# EAGLE library part RT314F03 (library RT314F03)
Electromechanical Relay 3VDC 15Ohm 16A SPDT (( 29mm 12.7mm 15.7mm)) THT Power Relay
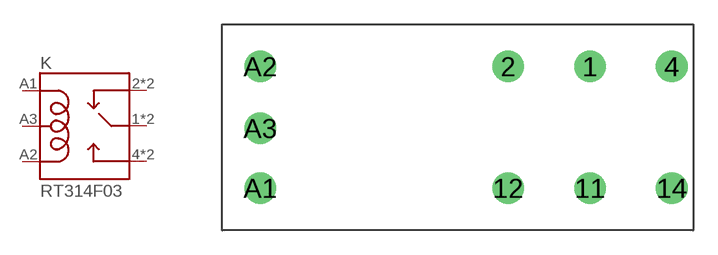
[diagram p0: symbol with the pads of RELAY_RT314F03; footprint RELAY_RT314F03]

Designator prefix K

## RT314F03 (Availability: Unavailable; Description: Power Relay 3VDC 16A SPDT __ 29mm 12.7mm 15.7mm__ Through Hole; MF: TE Connectivity; MP: RT314F03; Package: None; Price: None; TE_purchase_URL: https://www.te.com/usa-en/product-RT314F03.html?te_bu=Cor&te_type=disp&te_campaign=seda_glo_cor-seda-global-disp-prtnr-fy19-seda-model-bom-cta_sma-317_1&elqCampaignId=32493)  [RELAY_RT314F03]
1  11  pas
2  12  pas
4  14  pas
11  11  pas
12  12  pas
14  14  pas
A1  A1  pas
A2  A2  pas
A3  A3  pas

## Footprint RELAY_RT314F03 (pad centres in mm)
drill 1.3: 1 7.62,3.75; 2 2.58,3.75; 4 12.66,3.75; 11 7.62,-3.75; 12 2.58,-3.75; 14 12.66,-3.75; A1 -12.68,-3.75; A2 -12.68,3.75; A3 -12.68,-0.06